# EAGLE library part LTC2366 (library Mine)
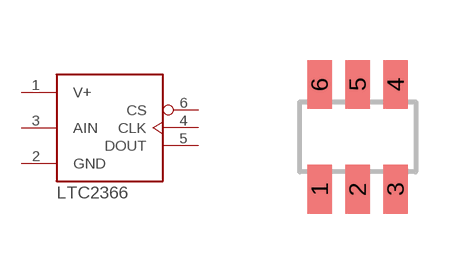
[diagram p1: symbol with the pads of TSOT23-6; footprint TSOT23-6]

Designator prefix -

## LTC2366  [TSOT23-6]
1  V+  pwr
2  GND  pwr
3  AIN  in
4  CLK  in
5  DOUT  out
6  CS  in

## Footprint TSOT23-6 (pad centres in mm)
smd 0.622 x 1.22: 1 -0.95,-1.31; 2 0,-1.31; 3 0.95,-1.31; 4 0.95,1.31; 5 0,1.31; 6 -0.95,1.31